# EAGLE library part HDR-06_ (library Chromation)
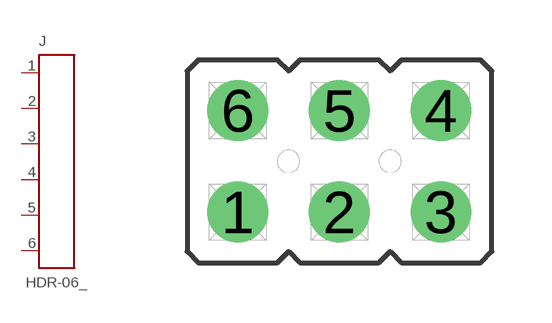
[diagram p7: symbol with the pads of FEMALE-HDR_3M_929852-01-03-10; footprint FEMALE-HDR_3M_929852-01-03-10]

Designator prefix J

## HDR-06_FEMALE_2.54_DUAL_V  [FEMALE-HDR_3M_929852-01-03-10]
1  PIN1
2  PIN2
3  PIN3
4  PIN4
5  PIN5
6  PIN6

## Footprint FEMALE-HDR_3M_929852-01-03-10 (pad centres in mm)
drill 1.016: 1 -2.54,-1.27; 2 0,-1.27; 3 2.54,-1.27; 4 2.54,1.27; 5 0,1.27; 6 -2.54,1.27